# EAGLE library part DIGITAL-TEMP-SENSOR-TMP117 (library FlashPCB_Sensors)
TMP117MAIDRVR - Temperature Sensor Digital, Local 0°C ~ 85°C 16 b 6-WSON (2x2) Technical Specifications: Accuracy: ±0.1°C Voltage - Supply: 1.8V ~ 5.5V Component Search: TMP117 <https://www.flashpcb.com/components> Datasheet: TMP117 High-Accuracy, Low-Power, Digital Temperature Sensor With SMBus™- and I2C-Compatible Interface <https://www.ti.com/lit/ds/symlink/tmp117.pdf>
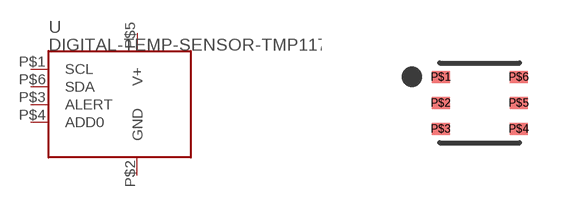
[diagram p9: symbol with the pads of 6-WSON(2X2); footprint 6-WSON(2X2)]

Designator prefix U

## DIGITAL-TEMP-SENSOR-TMP117DRV  [6-WSON(2X2)]
P$1  SCL
P$2  GND
P$3  ALERT
P$4  ADD0
P$5  V+
P$6  SDA

## Footprint 6-WSON(2X2) (pad centres in mm)
smd 0.45 x 0.3: P$1 -0.975,0.65; P$2 -0.975,0; P$3 -0.975,-0.65; P$4 0.975,-0.65; P$5 0.975,0; P$6 0.975,0.65